# EAGLE library part A111 (library SHARD-1)
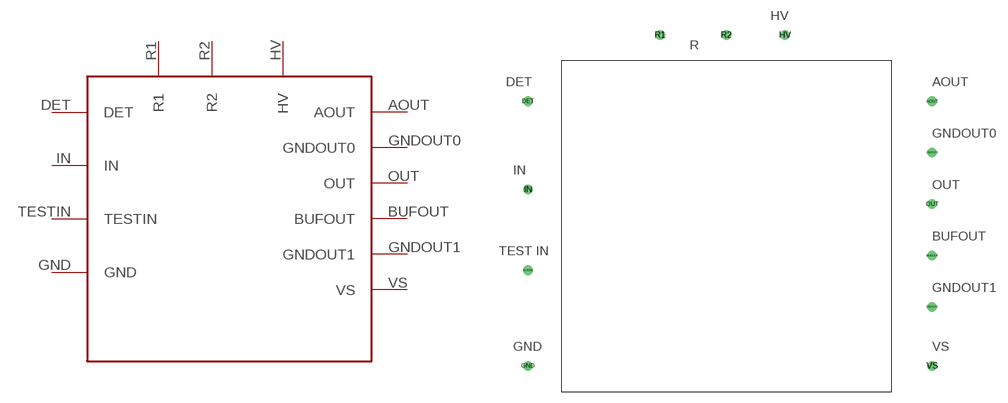
[diagram p0: symbol with the pads of A111; footprint A111]

Designator prefix -

## A111  [A111]
AOUT  AOUT
BUFOUT  BUFOUT
DET  DET
GND  GND
GNDOUT0  GNDOUT0
GNDOUT1  GNDOUT1
HV  HV
IN  IN
OUT  OUT
R1  R1
R2  R2
TESTIN  TESTIN
VS  VS

## Footprint A111 (pad centres in mm)
Package for A111 test board (PC21)
drill 0.8: AOUT 28,17; BUFOUT 28,-4; DET -27,17; GND -27,-19; GNDOUT0 28,10; GNDOUT1 28,-11; HV 8,26; IN -27,5; OUT 28,3; R1 -9,26; R2 0,26; TESTIN -27,-6; VS 28,-19